# EAGLE library part GE08RP (library EW_Resistors)
SIL RESISTOR
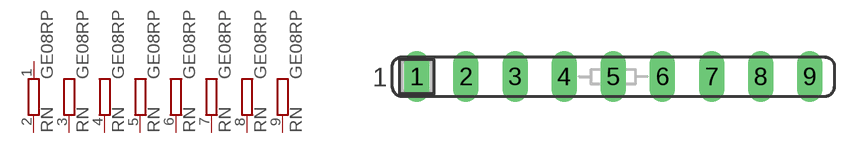
[diagram p82: symbol with the pads of SIL9; footprint SIL9]

Designator prefix RN; gates A=R-PV-10 B=R-PV1-10 C=R-PV1-10 D=R-PV1-10 E=R-PV1-10 F=R-PV1-10 G=R-PV1-10 H=R-PV1-10

## GE08RP (OC_FARNELL: unknown; OC_NEWARK: unknown)  [SIL9]
1  A:1  pas
2  A:2  pas
3  B:2  pas
4  C:2  pas
5  D:2  pas
6  E:2  pas
7  F:2  pas
8  G:2  pas
9  H:2  pas

## Footprint SIL9 (pad centres in mm)
Single In Line
drill 0.813 long: 1 -10.16,0; 2 -7.62,0; 3 -5.08,0; 4 -2.54,0; 5 0,0; 6 2.54,0; 7 5.08,0; 8 7.62,0; 9 10.16,0